# Altium schematic symbol library 稳压器件.SchLib: 7 symbols
Pins are listed as number, name and electrical type; pins without a type are passive.

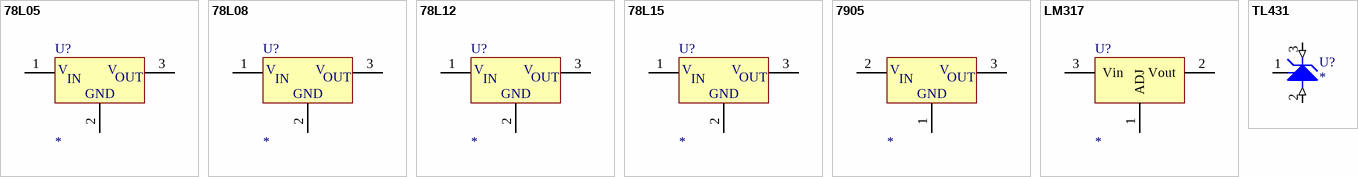
[diagram p0: symbols 78L05 to TL431]

## 78L05
designator U?
3-Terminal Positive Voltage Regulator
simulation model 78L05 (SUBCKT)
pins: 1 VIN, 2 GND, 3 VOUT
text: V; IN; OUT

## 78L08
designator U?
3-Terminal Positive Voltage Regulator
simulation model 78L08 (SUBCKT)
pins: 1 VIN, 2 GND, 3 VOUT
text: V; IN; OUT

## 78L12
designator U?
3-Terminal Positive Voltage Regulator
simulation model 78L12 (SUBCKT)
pins: 1 VIN, 2 GND, 3 VOUT
text: V; IN; OUT

## 78L15
designator U?
3-Terminal Positive Voltage Regulator
simulation model 78L15 (SUBCKT)
pins: 1 VIN, 2 GND, 3 VOUT
text: V; IN; OUT

## 7905
designator ?
pins: 1 GND, 2 VIN, 3 VOUT
text: V; IN; OUT

## LM317
designator U?
3-Terminal Adjustable Positive Voltage Regulator
simulation model LM317 (SUBCKT)
pins: 1 ADJ, 2 Vout, 3 Vin

## TL431
designator U?
Adjustable Precision Shunt Regulator
simulation model TL431 (SUBCKT)
pins: 1 R, 2 A (in), 3 K (in)